# Altium footprint library DFN6.PcbLib: 1 footprints
Each footprint in its own frame and in the unit in brackets; x right, y up, seen from the top. Pads: shape width x height; smd on the part's side, far side on the other; paste and mask are expansions set on the pad; w line width, h text height; cw(c..) or ccw(c..) is an arc to the next point about the centre after c.
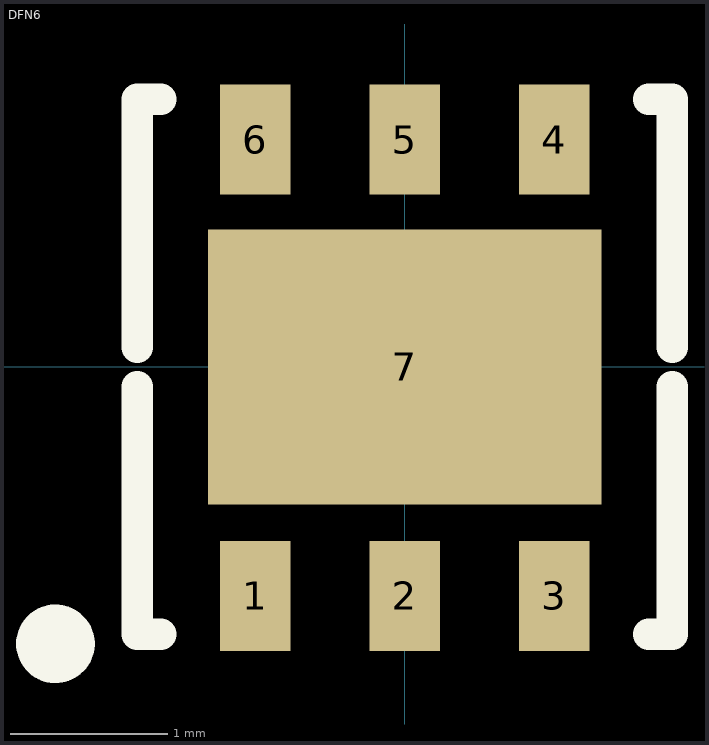
[diagram p0: the footprint, top view; thin cyan lines are the x and y axes]

## DFN6 [mm] "DFN6 (3 x 3 mm)"
height 0.8
pads (7):
  rect 0.45x0.7 smd: 1(-0.95,-1.455) 2(0,-1.455) 3(0.95,-1.455) 4(0.95,1.445) 5(0,1.445) 6(-0.95,1.445)
  rect 2.5x1.75 smd: 7(0,0)
Top Overlay:
  circle w0.25: c-2.22,-1.76 r0.125
  lines w0.2: -1.7,-0.125 -1.7,-1.7 -1.55,-1.7 ; -1.7,0.125 -1.7,1.7 -1.55,1.7 ; 1.55,-1.7 1.7,-1.7 1.7,-0.125 ; 1.55,1.7 1.7,1.7 1.7,0.125
3D body "User Library-dfn6_3x3_rm0_95.step": height 0.8, standoff 0, extent -1.5,-1.55 1.5,1.55